# Altium schematic symbol library Schlib1.SchLib: 2 symbols
Pins are listed as number, name and electrical type; pins without a type are passive.

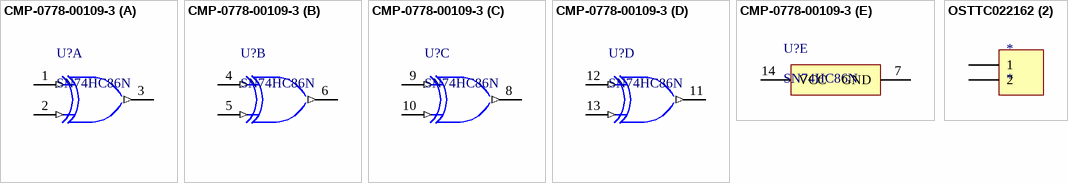
[diagram p0: symbols CMP-0778-00109-3 to OSTTC022162 (2)]

## CMP-0778-00109-3
designator U?, comment SN74HC86N
Quadruple 2-Input Exclusive-OR Gates, N0014A, TUBE; Manufacturer: Texas Instruments; Technology Family: HC; VCC(Min)(V): 2; F @ Nom Voltage(Max)(Mhz): 70; Input Type: CMOS; tpd @ Nom Voltage(Max)(ns): 21; ICC @ Nom Voltage(Max)(mA): 0.02; Bits(#): 4; Rating: Catalog; VCC(Max)(V): 6; Output Drive (IOL/IOH)(Max)(mA): 5.2/-5.2; Voltage(Nom)(V): 5; Schmitt Trigger: No; DatasheetVersion: SCLS100E; Operating Temperature Range(C): -40 to 85; Output Type: CMOS; Generic Part Number: SN74HC86; PackageReference: N0014A
footprint N0014A (DIP, 14-Leads, Body 19.7x6.6mm, Pitch 2.54mm)
footprint PCBComponent_1
part A pins: 1 1A (in), 2 1B (in), 3 1Y (out)
part B pins: 4 2A (in), 5 2B (in), 6 2Y (out)
part C pins: 8 3Y (out), 9 3A (in), 10 3B (in)
part D pins: 11 4Y (out), 12 4A (in), 13 4B (in)
part E pins: 7 GND (power), 14 VCC (power)

## OSTTC022162 (2)
designator *
Terminal Block Header 2-Position Top Screw 0.200" (5.08mm) PC-Pins; Manufacturer: On-Shore Technology; Manufacturer Part Number: OSTTC022162; Plating: Steel; Max Current Rating: 15A; Number of Levels: 1; Number of Positions Per Level: 2; Voltage: 300V; Wire Gauge (Max): 22AWG; Wire Gauge (Min): 14AWG; Supplier: Digikey; Supplier Part Number: ED2609-ND; RoHS: Yes; Category: Terminal Blocks; Stock: 22674; Pricing: 1=0.88, 10=0.439, 25=0.352, 50=0.3046, 100=0.2691, 250=0.23536, 500=0.21714, 1000=0.20345, 5000=0.18339 (USD); Mounting Technology: Through Hole; Color: Blue; Contact Plating: Tin; Housing Color: Blue; Contact Material: Brass; Housing Material: Thermoplastic; Min Operating Temperature: -30°C; Max Operating Temperature: 105°C; Number of Rows: 1; Packaging: Bulk; Current: 15A; Termination: Screw; Number of Contacts: 2; Number of Positions: 2; Series: OSTTC; Length: 10.2mm; Width: 7.6mm; Height: 10mm; Pitch: 5.08mm; Flammability Rating: UL94 V-0; RoHS Compliant: Yes; ComponentLink1URL: https://datasheet.ciiva.com/19454/2120647-19454560.pdf?src-supplier=Jameco; ComponentLink1Description: https://datasheet.ciiva.com/19454/2120647-19454560.pdf?src-supplier=Jameco; ComponentLink2URL: https://datasheet.ciiva.com/824/osttcxx2162-824893.pdf?src-supplier=Digikey; ComponentLink2Description: https://datasheet.ciiva.com/824/osttcxx2162-824893.pdf?src-supplier=Digikey
footprint high_amp_conn
pins: 1, 2